# Altium footprint library SnapEDApcb.PcbLib: 1 footprints
Each footprint in its own frame and in the unit in brackets; x right, y up, seen from the top. Pads: shape width x height; smd on the part's side, far side on the other; paste and mask are expansions set on the pad; w line width, h text height; cw(c..) or ccw(c..) is an arc to the next point about the centre after c.
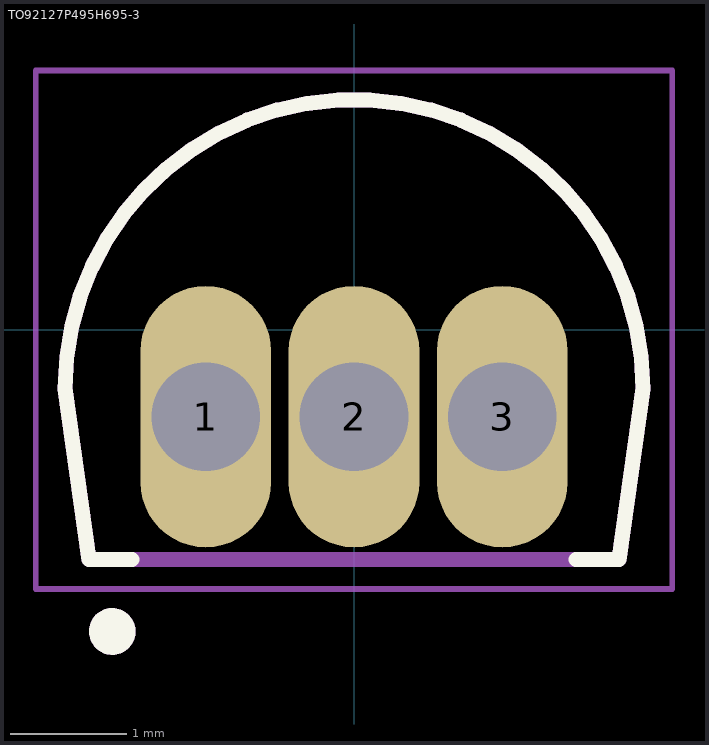
[diagram p0: the footprint, top view; thin cyan lines are the x and y axes]

## TO92127P495H695-3 [mm]
pads (3):
  oval 1.12x2.24 hole 0.93: 1(-1.27,-0.745) 2(0,-0.745) 3(1.27,-0.745)
Top Overlay:
  circle w0.2: c-2.07,-2.585 r0.1
  lines w0.127: -1.9,-1.97 -2.27,-1.97 -2.475,-0.505 cw(c0,-0.505) 2.475,-0.505 2.27,-1.97 1.9,-1.97
Mechanical 13:
  circle w0.2: c-2.07,-2.585 r0.1
  lines w0.127: -2.475,-0.505 cw(c0,-0.505) 2.475,-0.505 2.27,-1.97 -2.27,-1.97 -2.475,-0.505
Mechanical 15:
  lines w0.05: -2.725,-2.22 -2.725,2.22 2.725,2.22 2.725,-2.22 -2.725,-2.22